# Altium integrated library Microchip Power Management Line Regulator.IntLib: 1169 symbols (part 5 of 31)
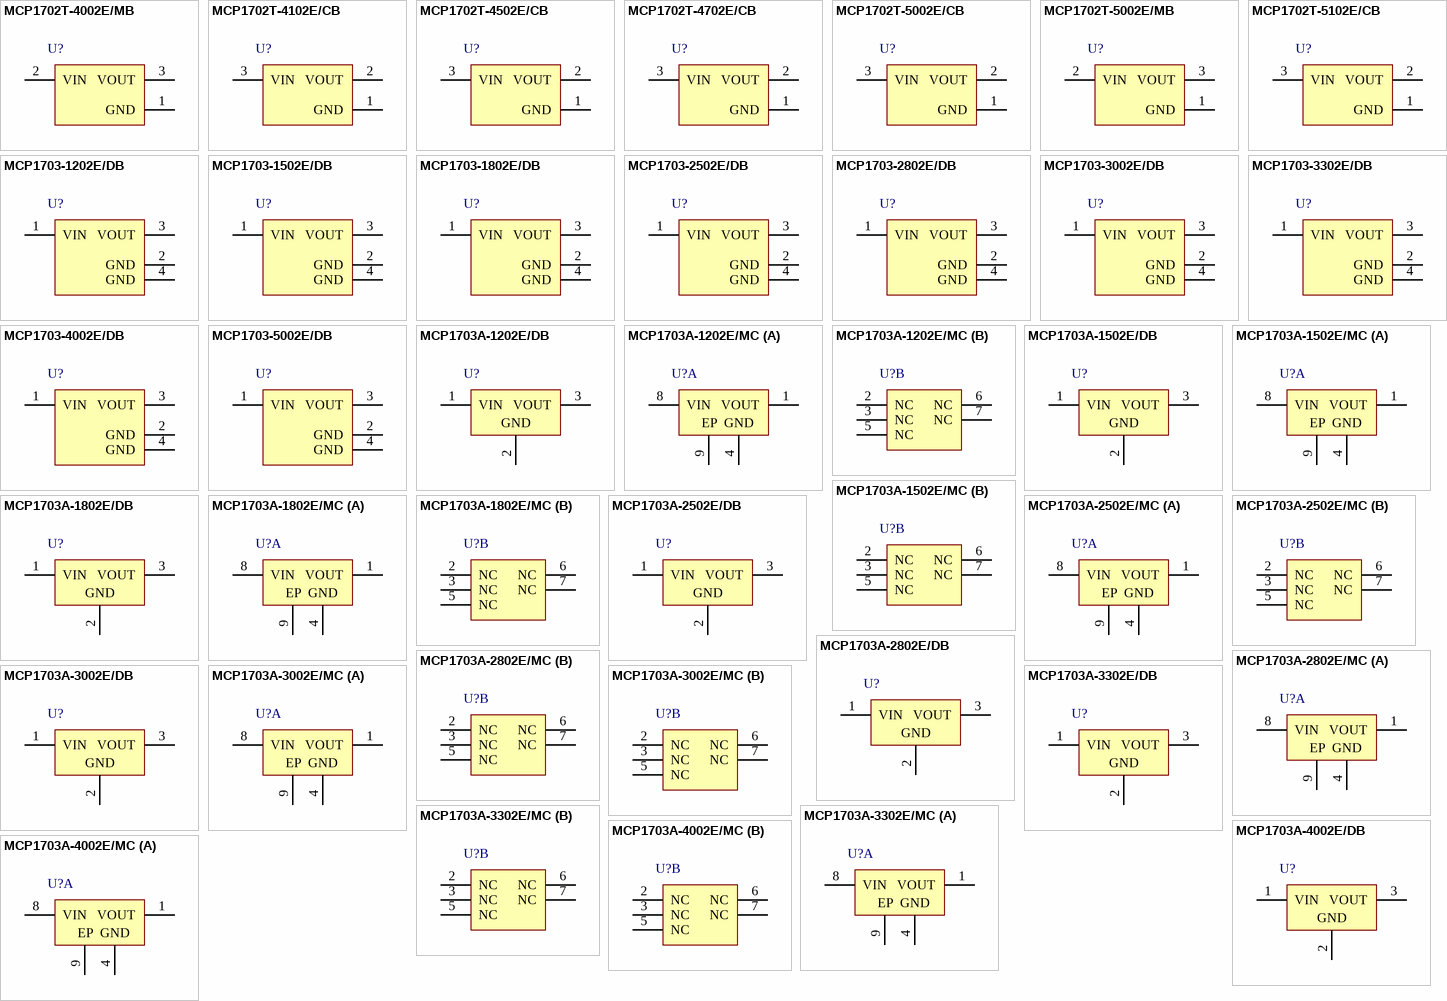
[diagram p33: symbols MCP1702T-4002E/MB to MCP1703A-4002E/MC]

## MCP1703A-4002E/DB
designator U?
250 mA, 16 V, Low Quiescent Current LDO Regulator, -40 to 125 degC, 3-pin SOT-223 (DB3), Tube; Manufacturer: Microchip; PartNumber: MCP1703A-4002E/DB; DatasheetVersion: Rev. A; PackageVersion: C04-032B; PackageReference: SOT-223-DB3; PackageDescription: 3-Lead Plastic Small Outline Transistor, 6.5 x 3.5 mm Body, 2.3 mm Pitch; Supplier 1: Digi-Key; Supplier Part Number 1: MCP1703A-4002E/DB-ND; Supplier 2: Newark; Supplier Part Number 2: 90T5919; Supplier 3: Mouser; Supplier Part Number 3: 579-MCP1703A-4002EDB; Mounting Technology: Surface Mount; ComponentLink1Description: Manufacturer URL; ComponentLink1URL: http://www.microchip.com; ComponentLink2Description: Datasheet; ComponentLink2URL: http://ww1.microchip.com/downloads/en/DeviceDoc/25122A.pdf; ComponentLink3Description: Package Specification; ComponentLink3URL: http://www.microchip.com/stellent/groups/techpub_sg/documents/packagingspec/en012702.pdf; ComponentLink4Description: Product URL; ComponentLink4URL: http://www.microchip.com/MCP1703A
footprint MCHP-SOT-223-DB3_N (SOT223, 3-Leads, Body 6.5x3.5mm, Pitch 2.3mm, IPC Medium Density)
footprint MCHP-SOT-223-DB3_L (SOT223, 3-Leads, Body 6.5x3.5mm, Pitch 2.3mm, IPC High Density)
footprint MCHP-SOT-223-DB3_M (SOT223, 3-Leads, Body 6.5x3.5mm, Pitch 2.3mm, IPC Low Density)
pins: 1 VIN (power) "Unregulated Supply Voltage", 2 GND (power) "Ground Terminal", 3 VOUT (power) "Regulated Voltage Output"

## MCP1703A-4002E/MC
designator U?
250 mA, 16 V, Low Quiescent Current LDO Regulator, -40 to 125 degC, 8-pin DFN (MC8), Tube; Manufacturer: Microchip; PartNumber: MCP1703A-4002E/MC; DatasheetVersion: Rev. A; PackageVersion: C04-123C; PackageReference: DFN-MC8; PackageDescription: 8-Lead Plastic Dual Flat, 2 x 3 mm Body, 0.5 mm Pitch; Mounting Technology: Surface Mount; ComponentLink1Description: Manufacturer URL; ComponentLink1URL: http://www.microchip.com; ComponentLink2Description: Datasheet; ComponentLink2URL: http://ww1.microchip.com/downloads/en/DeviceDoc/25122A.pdf; ComponentLink3Description: Package Specification; ComponentLink3URL: http://www.microchip.com/stellent/groups/techpub_sg/documents/packagingspec/en012702.pdf; ComponentLink4Description: Product URL; ComponentLink4URL: http://www.microchip.com/MCP1703A
footprint MCHP-DFN-MC8_V (SON, 8-Leads, Body 3x2mm, Pitch 0.5mm, Thermal Pad 1.45x1.75mm)
part A pins: 1 VOUT (power) "Regulated Voltage Output", 4 GND (power) "Ground Terminal", 8 VIN (power) "Unregulated Supply Voltage", 9 EP (power) "Exposed Thermal Pad (EP); must be connected to VSS"
part B pins: 2 NC "No Connection", 3 NC "No Connection", 5 NC "No Connection", 6 NC "No Connection", 7 NC "No Connection"

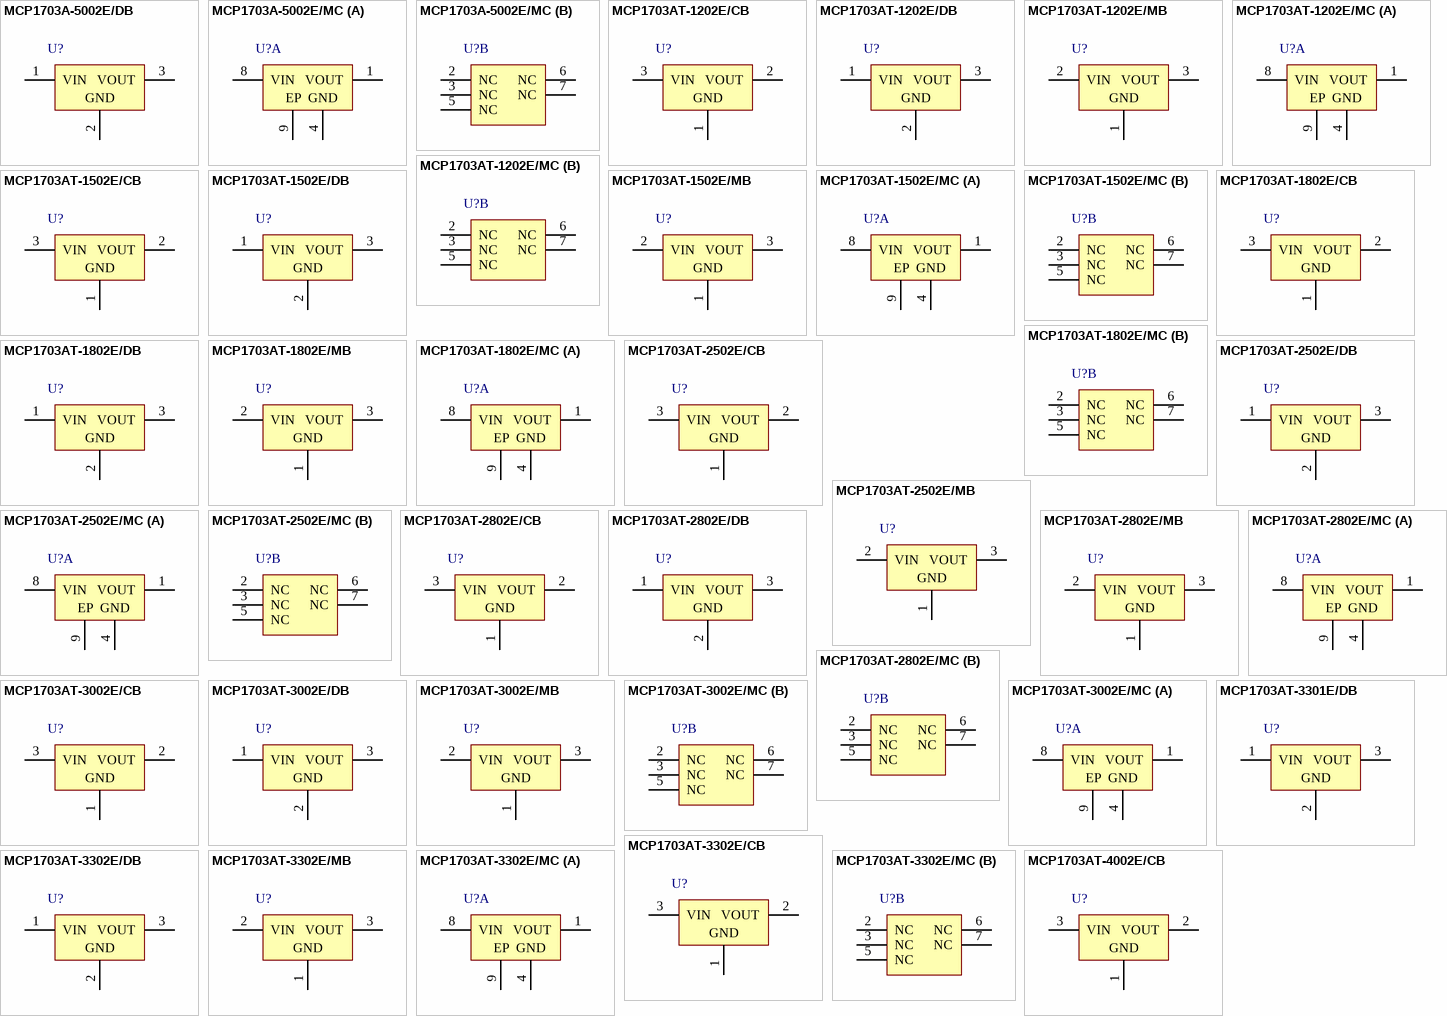
[diagram p4: symbols MCP1703A-5002E/DB to MCP1703AT-4002E/CB]

## MCP1703A-5002E/DB
designator U?
250 mA, 16 V, Low Quiescent Current LDO Regulator, -40 to 125 degC, 3-pin SOT-223 (DB3), Tube; Manufacturer: Microchip; PartNumber: MCP1703A-5002E/DB; DatasheetVersion: Rev. A; PackageVersion: C04-032B; PackageReference: SOT-223-DB3; PackageDescription: 3-Lead Plastic Small Outline Transistor, 6.5 x 3.5 mm Body, 2.3 mm Pitch; Supplier 1: Digi-Key; Supplier Part Number 1: MCP1703A-5002E/DB-ND; Supplier 2: Farnell; Supplier Part Number 2: 2113889; Supplier 3: Newark; Supplier Part Number 3: 95T9279; Supplier 4: Newark; Supplier Part Number 4: 90T5920; Supplier 5: Mouser; Supplier Part Number 5: 579-MCP1703A-5002EDB; Mounting Technology: Surface Mount; ComponentLink1Description: Manufacturer URL; ComponentLink1URL: http://www.microchip.com; ComponentLink2Description: Datasheet; ComponentLink2URL: http://ww1.microchip.com/downloads/en/DeviceDoc/25122A.pdf; ComponentLink3Description: Package Specification; ComponentLink3URL: http://www.microchip.com/stellent/groups/techpub_sg/documents/packagingspec/en012702.pdf; ComponentLink4Description: Product URL; ComponentLink4URL: http://www.microchip.com/MCP1703A
footprint MCHP-SOT-223-DB3_N (SOT223, 3-Leads, Body 6.5x3.5mm, Pitch 2.3mm, IPC Medium Density)
footprint MCHP-SOT-223-DB3_L (SOT223, 3-Leads, Body 6.5x3.5mm, Pitch 2.3mm, IPC High Density)
footprint MCHP-SOT-223-DB3_M (SOT223, 3-Leads, Body 6.5x3.5mm, Pitch 2.3mm, IPC Low Density)
pins: 1 VIN (power) "Unregulated Supply Voltage", 2 GND (power) "Ground Terminal", 3 VOUT (power) "Regulated Voltage Output"

## MCP1703A-5002E/MC
designator U?
250 mA, 16 V, Low Quiescent Current LDO Regulator, -40 to 125 degC, 8-pin DFN (MC8), Tube; Manufacturer: Microchip; PartNumber: MCP1703A-5002E/MC; DatasheetVersion: Rev. A; PackageVersion: C04-123C; PackageReference: DFN-MC8; PackageDescription: 8-Lead Plastic Dual Flat, 2 x 3 mm Body, 0.5 mm Pitch; Mounting Technology: Surface Mount; ComponentLink1Description: Manufacturer URL; ComponentLink1URL: http://www.microchip.com; ComponentLink2Description: Datasheet; ComponentLink2URL: http://ww1.microchip.com/downloads/en/DeviceDoc/25122A.pdf; ComponentLink3Description: Package Specification; ComponentLink3URL: http://www.microchip.com/stellent/groups/techpub_sg/documents/packagingspec/en012702.pdf; ComponentLink4Description: Product URL; ComponentLink4URL: http://www.microchip.com/MCP1703A
footprint MCHP-DFN-MC8_V (SON, 8-Leads, Body 3x2mm, Pitch 0.5mm, Thermal Pad 1.45x1.75mm)
part A pins: 1 VOUT (power) "Regulated Voltage Output", 4 GND (power) "Ground Terminal", 8 VIN (power) "Unregulated Supply Voltage", 9 EP (power) "Exposed Thermal Pad (EP); must be connected to VSS"
part B pins: 2 NC "No Connection", 3 NC "No Connection", 5 NC "No Connection", 6 NC "No Connection", 7 NC "No Connection"

## MCP1703AT-1202E/CB
designator U?
250 mA, 16 V, Low Quiescent Current LDO Regulator, -40 to 125 degC, 3-pin SOT-23A (CB3), Tape and Reel; Manufacturer: Microchip; PartNumber: MCP1703AT-1202E/CB; DatasheetVersion: Rev. A; PackageVersion: C04-130B; PackageReference: SOT-23A-CB3; PackageDescription: 3-Lead Plastic Small Outline Transistor, 2.9 x 1.5 mm Body, 0.95 mm Pitch; Supplier 1: Digi-Key; Supplier Part Number 1: MCP1703AT-1202E/CBTR-ND; Supplier 2: Digi-Key; Supplier Part Number 2: MCP1703AT-1202E/CBCT-ND; Supplier 3: Digi-Key; Supplier Part Number 3: MCP1703AT-1202E/CBDKR-ND; Supplier 4: Farnell; Supplier Part Number 4: 2218569; Supplier 5: Newark; Supplier Part Number 5: 46W4752; Supplier 6: Newark; Supplier Part Number 6: 83T7156; Supplier 7: Mouser; Supplier Part Number 7: 579-MCP1703AT1202ECB; Mounting Technology: Surface Mount; ComponentLink1Description: Manufacturer URL; ComponentLink1URL: http://www.microchip.com; ComponentLink2Description: Datasheet; ComponentLink2URL: http://ww1.microchip.com/downloads/en/DeviceDoc/25122A.pdf; ComponentLink3Description: Package Specification; ComponentLink3URL: http://www.microchip.com/stellent/groups/techpub_sg/documents/packagingspec/en012702.pdf; ComponentLink4Description: Product URL; ComponentLink4URL: http://www.microchip.com/MCP1703A
footprint MCHP-SOT-23A-CB3_N (SOT23, 3-Leads, Body 2.9x1.5mm, Pitch 0.95mm, IPC Medium Density)
footprint MCHP-SOT-23A-CB3_L (SOT23, 3-Leads, Body 2.9x1.5mm, Pitch 0.95mm, IPC High Density)
footprint MCHP-SOT-23A-CB3_M (SOT23, 3-Leads, Body 2.9x1.5mm, Pitch 0.95mm, IPC Low Density)
pins: 1 GND (power) "Ground Terminal", 2 VOUT (power) "Regulated Output Voltage", 3 VIN (power) "Unregulated Input Voltage"

## MCP1703AT-1202E/DB
designator U?
250 mA, 16 V, Low Quiescent Current LDO Regulator, -40 to 125 degC, 3-pin SOT-223 (DB3), Tape and Reel; Manufacturer: Microchip; PartNumber: MCP1703AT-1202E/DB; DatasheetVersion: Rev. A; PackageVersion: C04-032B; PackageReference: SOT-223-DB3; PackageDescription: 3-Lead Plastic Small Outline Transistor, 6.5 x 3.5 mm Body, 2.3 mm Pitch; Supplier 1: Digi-Key; Supplier Part Number 1: MCP1703AT-1202E/DB-ND; Supplier 2: Newark; Supplier Part Number 2: 90T5921; Supplier 3: Mouser; Supplier Part Number 3: 579-MCP1703AT1202EDB; Mounting Technology: Surface Mount; ComponentLink1Description: Manufacturer URL; ComponentLink1URL: http://www.microchip.com; ComponentLink2Description: Datasheet; ComponentLink2URL: http://ww1.microchip.com/downloads/en/DeviceDoc/25122A.pdf; ComponentLink3Description: Package Specification; ComponentLink3URL: http://www.microchip.com/stellent/groups/techpub_sg/documents/packagingspec/en012702.pdf; ComponentLink4Description: Product URL; ComponentLink4URL: http://www.microchip.com/MCP1703A
footprint MCHP-SOT-223-DB3_N (SOT223, 3-Leads, Body 6.5x3.5mm, Pitch 2.3mm, IPC Medium Density)
footprint MCHP-SOT-223-DB3_L (SOT223, 3-Leads, Body 6.5x3.5mm, Pitch 2.3mm, IPC High Density)
footprint MCHP-SOT-223-DB3_M (SOT223, 3-Leads, Body 6.5x3.5mm, Pitch 2.3mm, IPC Low Density)
pins: 1 VIN (power) "Unregulated Supply Voltage", 2 GND (power) "Ground Terminal", 3 VOUT (power) "Regulated Voltage Output"

## MCP1703AT-1202E/MB
designator U?
250 mA, 16 V, Low Quiescent Current LDO Regulator, -40 to 125 degC, 3-pin SOT-89 (MB3), Tape and Reel; Manufacturer: Microchip; PartNumber: MCP1703AT-1202E/MB; DatasheetVersion: Rev. A; PackageVersion: C04-029B; PackageReference: SOT-89-MB3; PackageDescription: 3-Lead Plastic Small Outline Transistor Header, 4.5 x 2.45 mm Body, 1.5 mm Pitch; Supplier 1: Digi-Key; Supplier Part Number 1: MCP1703AT-1202E/MBTR-ND; Supplier 2: Digi-Key; Supplier Part Number 2: MCP1703AT-1202E/MBCT-ND; Supplier 3: Digi-Key; Supplier Part Number 3: MCP1703AT-1202E/MBDKR-ND; Supplier 4: Farnell; Supplier Part Number 4: 2218570; Supplier 5: Newark; Supplier Part Number 5: 46W4753; Supplier 6: Newark; Supplier Part Number 6: 83T7157; Supplier 7: Mouser; Supplier Part Number 7: 579-MCP1703AT1202EMB; Mounting Technology: Surface Mount; ComponentLink1Description: Manufacturer URL; ComponentLink1URL: http://www.microchip.com; ComponentLink2Description: Datasheet; ComponentLink2URL: http://ww1.microchip.com/downloads/en/DeviceDoc/25122A.pdf; ComponentLink3Description: Package Specification; ComponentLink3URL: http://www.microchip.com/stellent/groups/techpub_sg/documents/packagingspec/en012702.pdf; ComponentLink4Description: Product URL; ComponentLink4URL: http://www.microchip.com/MCP1703A
footprint MCHP-SOT-89-MB3_N (SOT89, 3-Leads, Body 4.5x2.45mm, Pitch 1.5mm, IPC Medium Density)
footprint MCHP-SOT-89-MB3_L (SOT89, 3-Leads, Body 4.5x2.45mm, Pitch 1.5mm, IPC High Density)
footprint MCHP-SOT-89-MB3_M (SOT89, 3-Leads, Body 4.5x2.45mm, Pitch 1.5mm, IPC Low Density)
pins: 1 GND (power) "Ground Terminal", 2 VIN (power) "Unregulated Supply Voltage", 3 VOUT (power) "Regulated Voltage Output"

## MCP1703AT-1202E/MC
designator U?
250 mA, 16 V, Low Quiescent Current LDO Regulator, -40 to 125 degC, 8-pin DFN (MC8), Tape and Reel; Manufacturer: Microchip; PartNumber: MCP1703AT-1202E/MC; DatasheetVersion: Rev. A; PackageVersion: C04-123C; PackageReference: DFN-MC8; PackageDescription: 8-Lead Plastic Dual Flat, 2 x 3 mm Body, 0.5 mm Pitch; Supplier 1: Digi-Key; Supplier Part Number 1: MCP1703AT-1202E/MC-ND; Supplier 2: Newark; Supplier Part Number 2: 90T5922; Supplier 3: Mouser; Supplier Part Number 3: 579-MCP1703AT1202EMC; Mounting Technology: Surface Mount; ComponentLink1Description: Manufacturer URL; ComponentLink1URL: http://www.microchip.com; ComponentLink2Description: Datasheet; ComponentLink2URL: http://ww1.microchip.com/downloads/en/DeviceDoc/25122A.pdf; ComponentLink3Description: Package Specification; ComponentLink3URL: http://www.microchip.com/stellent/groups/techpub_sg/documents/packagingspec/en012702.pdf; ComponentLink4Description: Product URL; ComponentLink4URL: http://www.microchip.com/MCP1703A
footprint MCHP-DFN-MC8_V (SON, 8-Leads, Body 3x2mm, Pitch 0.5mm, Thermal Pad 1.45x1.75mm)
part A pins: 1 VOUT (power) "Regulated Voltage Output", 4 GND (power) "Ground Terminal", 8 VIN (power) "Unregulated Supply Voltage", 9 EP (power) "Exposed Thermal Pad (EP); must be connected to VSS"
part B pins: 2 NC "No Connection", 3 NC "No Connection", 5 NC "No Connection", 6 NC "No Connection", 7 NC "No Connection"

## MCP1703AT-1502E/CB
designator U?
250 mA, 16V, Low Quiescent Current LDO Regulator, -40 to 125 degC, 3-pin SOT-23A (CB3), Tape and Real; Manufacturer: Microchip; PartNumber: MCP1703AT-1502E/CB; DatasheetVersion: Rev. A; PackageVersion: C04-130B; PackageReference: SOT-23A-CB3; PackageDescription: 3-Lead Plastic Small Outline Transistor, 2.9 x 1.5 mm Body, 0.95 mm Pitch; Supplier 1: Digi-Key; Supplier Part Number 1: MCP1703AT-1502E/CBTR-ND; Supplier 2: Digi-Key; Supplier Part Number 2: MCP1703AT-1502E/CBCT-ND; Supplier 3: Digi-Key; Supplier Part Number 3: MCP1703AT-1502E/CBDKR-ND; Supplier 4: Farnell; Supplier Part Number 4: 2218571; Supplier 5: Newark; Supplier Part Number 5: 46W4754; Supplier 6: Newark; Supplier Part Number 6: 83T7158; Supplier 7: Mouser; Supplier Part Number 7: 579-MCP1703AT1502ECB; Mounting Technology: Surface Mount; ComponentLink1Description: Manufacturer URL; ComponentLink1URL: http://www.microchip.com; ComponentLink2Description: Datasheet; ComponentLink2URL: http://ww1.microchip.com/downloads/en/DeviceDoc/25122A.pdf; ComponentLink3Description: Package Specification; ComponentLink3URL: http://www.microchip.com/stellent/groups/techpub_sg/documents/packagingspec/en012702.pdf; ComponentLink4Description: Product URL; ComponentLink4URL: http://www.microchip.com/MCP1703A
footprint MCHP-SOT-23A-CB3_N (SOT23, 3-Leads, Body 2.9x1.5mm, Pitch 0.95mm, IPC Medium Density)
footprint MCHP-SOT-23A-CB3_L (SOT23, 3-Leads, Body 2.9x1.5mm, Pitch 0.95mm, IPC High Density)
footprint MCHP-SOT-23A-CB3_M (SOT23, 3-Leads, Body 2.9x1.5mm, Pitch 0.95mm, IPC Low Density)
pins: 1 GND (power) "Ground Terminal", 2 VOUT (power) "Regulated Output Voltage", 3 VIN (power) "Unregulated Input Voltage"

## MCP1703AT-1502E/DB
designator U?
250 mA, 16V, Low Quiescent Current LDO Regulator, -40 to 125 degC, 3-pin SOT-223 (DB3), Tape and Reel; Manufacturer: Microchip; PartNumber: MCP1703AT-1502E/DB; DatasheetVersion: Rev. A; PackageVersion: C04-032B; PackageReference: SOT-223-DB3; PackageDescription: 3-Lead Plastic Small Outline Transistor, 6.5 x 3.5 mm Body, 2.3 mm Pitch; Supplier 1: Digi-Key; Supplier Part Number 1: MCP1703AT-1502E/DB-ND; Supplier 2: Newark; Supplier Part Number 2: 90T5923; Supplier 3: Mouser; Supplier Part Number 3: 579-MCP1703AT1502EDB; Mounting Technology: Surface Mount; ComponentLink1Description: Manufacturer URL; ComponentLink1URL: http://www.microchip.com; ComponentLink2Description: Datasheet; ComponentLink2URL: http://ww1.microchip.com/downloads/en/DeviceDoc/25122A.pdf; ComponentLink3Description: Package Specification; ComponentLink3URL: http://www.microchip.com/stellent/groups/techpub_sg/documents/packagingspec/en012702.pdf; ComponentLink4Description: Product URL; ComponentLink4URL: http://www.microchip.com/MCP1703A
footprint MCHP-SOT-223-DB3_N (SOT223, 3-Leads, Body 6.5x3.5mm, Pitch 2.3mm, IPC Medium Density)
footprint MCHP-SOT-223-DB3_L (SOT223, 3-Leads, Body 6.5x3.5mm, Pitch 2.3mm, IPC High Density)
footprint MCHP-SOT-223-DB3_M (SOT223, 3-Leads, Body 6.5x3.5mm, Pitch 2.3mm, IPC Low Density)
pins: 1 VIN (power) "Unregulated Supply Voltage", 2 GND (power) "Ground Terminal", 3 VOUT (power) "Regulated Voltage Output"

## MCP1703AT-1502E/MB
designator U?
250 mA, 16V, Low Quiescent Current LDO Regulator, -40 to 125 degC, 3-pin SOT-89 (MB3), Tape and Reel; Manufacturer: Microchip; PartNumber: MCP1703AT-1502E/MB; DatasheetVersion: Rev. A; PackageVersion: C04-029B; PackageReference: SOT-89-MB3; PackageDescription: 3-Lead Plastic Small Outline Transistor Header, 4.5 x 2.45 mm Body, 1.5 mm Pitch; Supplier 1: Digi-Key; Supplier Part Number 1: MCP1703AT-1502E/MBTR-ND; Supplier 2: Digi-Key; Supplier Part Number 2: MCP1703AT-1502E/MBCT-ND; Supplier 3: Digi-Key; Supplier Part Number 3: MCP1703AT-1502E/MBDKR-ND; Supplier 4: Farnell; Supplier Part Number 4: 2218572; Supplier 5: Newark; Supplier Part Number 5: 83T7159; Supplier 6: Newark; Supplier Part Number 6: 46W4755; Supplier 7: Mouser; Supplier Part Number 7: 579-MCP1703AT1502EMB; Mounting Technology: Surface Mount; ComponentLink1Description: Manufacturer URL; ComponentLink1URL: http://www.microchip.com; ComponentLink2Description: Datasheet; ComponentLink2URL: http://ww1.microchip.com/downloads/en/DeviceDoc/25122A.pdf; ComponentLink3Description: Package Specification; ComponentLink3URL: http://www.microchip.com/stellent/groups/techpub_sg/documents/packagingspec/en012702.pdf; ComponentLink4Description: Product URL; ComponentLink4URL: http://www.microchip.com/MCP1703A
footprint MCHP-SOT-89-MB3_N (SOT89, 3-Leads, Body 4.5x2.45mm, Pitch 1.5mm, IPC Medium Density)
footprint MCHP-SOT-89-MB3_L (SOT89, 3-Leads, Body 4.5x2.45mm, Pitch 1.5mm, IPC High Density)
footprint MCHP-SOT-89-MB3_M (SOT89, 3-Leads, Body 4.5x2.45mm, Pitch 1.5mm, IPC Low Density)
pins: 1 GND (power) "Ground Terminal", 2 VIN (power) "Unregulated Supply Voltage", 3 VOUT (power) "Regulated Voltage Output"

## MCP1703AT-1502E/MC
designator U?
250 mA, 16V, Low Quiescent Current LDO Regulator, -40 to 125 degC, 8-pin DFN (MC8), Tape and Reel; Manufacturer: Microchip; PartNumber: MCP1703AT-1502E/MC; DatasheetVersion: Rev. A; PackageVersion: C04-123C; PackageReference: DFN-MC8; PackageDescription: 8-Lead Plastic Dual Flat, 2 x 3 mm Body, 0.5 mm Pitch; Mounting Technology: Surface Mount; ComponentLink1Description: Manufacturer URL; ComponentLink1URL: http://www.microchip.com; ComponentLink2Description: Datasheet; ComponentLink2URL: http://ww1.microchip.com/downloads/en/DeviceDoc/25122A.pdf; ComponentLink3Description: Package Specification; ComponentLink3URL: http://www.microchip.com/stellent/groups/techpub_sg/documents/packagingspec/en012702.pdf; ComponentLink4Description: Product URL; ComponentLink4URL: http://www.microchip.com/MCP1703A
footprint MCHP-DFN-MC8_V (SON, 8-Leads, Body 3x2mm, Pitch 0.5mm, Thermal Pad 1.45x1.75mm)
part A pins: 1 VOUT (power) "Regulated Voltage Output", 4 GND (power) "Ground Terminal", 8 VIN (power) "Unregulated Supply Voltage", 9 EP (power) "Exposed Thermal Pad (EP); must be connected to VSS"
part B pins: 2 NC "No Connection", 3 NC "No Connection", 5 NC "No Connection", 6 NC "No Connection", 7 NC "No Connection"

## MCP1703AT-1802E/CB
designator U?
250 mA, 16V, Low Quiescent Current LDO Regulator, -40 to 125 degC, 3-pin SOT-23A (CB3), Tape and Reel; Manufacturer: Microchip; PartNumber: MCP1703AT-1802E/CB; DatasheetVersion: Rev. A; PackageVersion: C04-130B; PackageReference: SOT-23A-CB3; PackageDescription: 3-Lead Plastic Small Outline Transistor, 2.9 x 1.5 mm Body, 0.95 mm Pitch; Supplier 1: Digi-Key; Supplier Part Number 1: MCP1703AT-1802E/CB-ND; Supplier 2: Newark; Supplier Part Number 2: 83T7160; Supplier 3: Mouser; Supplier Part Number 3: 579-MCP1703AT1802ECB; Mounting Technology: Surface Mount; ComponentLink1Description: Manufacturer URL; ComponentLink1URL: http://www.microchip.com; ComponentLink2Description: Datasheet; ComponentLink2URL: http://ww1.microchip.com/downloads/en/DeviceDoc/25122A.pdf; ComponentLink3Description: Package Specification; ComponentLink3URL: http://www.microchip.com/stellent/groups/techpub_sg/documents/packagingspec/en012702.pdf; ComponentLink4Description: Product URL; ComponentLink4URL: http://www.microchip.com/MCP1703A
footprint MCHP-SOT-23A-CB3_N (SOT23, 3-Leads, Body 2.9x1.5mm, Pitch 0.95mm, IPC Medium Density)
footprint MCHP-SOT-23A-CB3_L (SOT23, 3-Leads, Body 2.9x1.5mm, Pitch 0.95mm, IPC High Density)
footprint MCHP-SOT-23A-CB3_M (SOT23, 3-Leads, Body 2.9x1.5mm, Pitch 0.95mm, IPC Low Density)
pins: 1 GND (power) "Ground Terminal", 2 VOUT (power) "Regulated Output Voltage", 3 VIN (power) "Unregulated Input Voltage"

## MCP1703AT-1802E/DB
designator U?
250 mA, 16V, Low Quiescent Current LDO Regulator, -40 to 125 degC, 3-pin SOT-223 (DB3), Tape and Reel; Manufacturer: Microchip; PartNumber: MCP1703AT-1802E/DB; DatasheetVersion: Rev. A; PackageVersion: C04-032B; PackageReference: SOT-223-DB3; PackageDescription: 3-Lead Plastic Small Outline Transistor, 6.5 x 3.5 mm Body, 2.3 mm Pitch; Supplier 1: Digi-Key; Supplier Part Number 1: MCP1703AT-1802E/DB-ND; Supplier 2: Newark; Supplier Part Number 2: 90T5924; Supplier 3: Mouser; Supplier Part Number 3: 579-MCP1703AT1802EDB; Mounting Technology: Surface Mount; ComponentLink1Description: Manufacturer URL; ComponentLink1URL: http://www.microchip.com; ComponentLink2Description: Datasheet; ComponentLink2URL: http://ww1.microchip.com/downloads/en/DeviceDoc/25122A.pdf; ComponentLink3Description: Package Specification; ComponentLink3URL: http://www.microchip.com/stellent/groups/techpub_sg/documents/packagingspec/en012702.pdf; ComponentLink4Description: Product URL; ComponentLink4URL: http://www.microchip.com/MCP1703A
footprint MCHP-SOT-223-DB3_N (SOT223, 3-Leads, Body 6.5x3.5mm, Pitch 2.3mm, IPC Medium Density)
footprint MCHP-SOT-223-DB3_L (SOT223, 3-Leads, Body 6.5x3.5mm, Pitch 2.3mm, IPC High Density)
footprint MCHP-SOT-223-DB3_M (SOT223, 3-Leads, Body 6.5x3.5mm, Pitch 2.3mm, IPC Low Density)
pins: 1 VIN (power) "Unregulated Supply Voltage", 2 GND (power) "Ground Terminal", 3 VOUT (power) "Regulated Voltage Output"

## MCP1703AT-1802E/MB
designator U?
250 mA, 16V, Low Quiescent Current LDO Regulator, -40 to 125 degC, 3-pin SOT-89 (MB3), Tape and Reel; Manufacturer: Microchip; PartNumber: MCP1703AT-1802E/MB; DatasheetVersion: Rev. A; PackageVersion: C04-029B; PackageReference: SOT-89-MB3; PackageDescription: 3-Lead Plastic Small Outline Transistor Header, 4.5 x 2.45 mm Body, 1.5 mm Pitch; Supplier 1: Digi-Key; Supplier Part Number 1: MCP1703AT-1802E/MB-ND; Supplier 2: Newark; Supplier Part Number 2: 83T7161; Supplier 3: Mouser; Supplier Part Number 3: 579-MCP1703AT1802EMB; Mounting Technology: Surface Mount; ComponentLink1Description: Manufacturer URL; ComponentLink1URL: http://www.microchip.com; ComponentLink2Description: Datasheet; ComponentLink2URL: http://ww1.microchip.com/downloads/en/DeviceDoc/25122A.pdf; ComponentLink3Description: Package Specification; ComponentLink3URL: http://www.microchip.com/stellent/groups/techpub_sg/documents/packagingspec/en012702.pdf; ComponentLink4Description: Product URL; ComponentLink4URL: http://www.microchip.com/MCP1703A
footprint MCHP-SOT-89-MB3_N (SOT89, 3-Leads, Body 4.5x2.45mm, Pitch 1.5mm, IPC Medium Density)
footprint MCHP-SOT-89-MB3_L (SOT89, 3-Leads, Body 4.5x2.45mm, Pitch 1.5mm, IPC High Density)
footprint MCHP-SOT-89-MB3_M (SOT89, 3-Leads, Body 4.5x2.45mm, Pitch 1.5mm, IPC Low Density)
pins: 1 GND (power) "Ground Terminal", 2 VIN (power) "Unregulated Supply Voltage", 3 VOUT (power) "Regulated Voltage Output"

## MCP1703AT-1802E/MC
designator U?
250 mA, 16V, Low Quiescent Current LDO Regulator, -40 to 125 degC, 8-pin DFN (MC8), Tape and Reel; Manufacturer: Microchip; PartNumber: MCP1703AT-1802E/MC; DatasheetVersion: Rev. A; PackageVersion: C04-123C; PackageReference: DFN-MC8; PackageDescription: 8-Lead Plastic Dual Flat, 2 x 3 mm Body, 0.5 mm Pitch; Supplier 1: Digi-Key; Supplier Part Number 1: MCP1703AT-1802E/MC-ND; Supplier 2: Newark; Supplier Part Number 2: 90T5925; Supplier 3: Mouser; Supplier Part Number 3: 579-MCP1703AT1802EMC; Mounting Technology: Surface Mount; ComponentLink1Description: Manufacturer URL; ComponentLink1URL: http://www.microchip.com; ComponentLink2Description: Datasheet; ComponentLink2URL: http://ww1.microchip.com/downloads/en/DeviceDoc/25122A.pdf; ComponentLink3Description: Package Specification; ComponentLink3URL: http://www.microchip.com/stellent/groups/techpub_sg/documents/packagingspec/en012702.pdf; ComponentLink4Description: Product URL; ComponentLink4URL: http://www.microchip.com/MCP1703A
footprint MCHP-DFN-MC8_V (SON, 8-Leads, Body 3x2mm, Pitch 0.5mm, Thermal Pad 1.45x1.75mm)
part A pins: 1 VOUT (power) "Regulated Voltage Output", 4 GND (power) "Ground Terminal", 8 VIN (power) "Unregulated Supply Voltage", 9 EP (power) "Exposed Thermal Pad (EP); must be connected to VSS"
part B pins: 2 NC "No Connection", 3 NC "No Connection", 5 NC "No Connection", 6 NC "No Connection", 7 NC "No Connection"

## MCP1703AT-2502E/CB
designator U?
250 mA, 16V, Low Quiescent Current LDO Regulator, -40 to 125 degC, 3-pin SOT-23A (CB3), Tape and Reel; Manufacturer: Microchip; PartNumber: MCP1703AT-2502E/CB; DatasheetVersion: Rev. A; PackageVersion: C04-130B; PackageReference: SOT-23A-CB3; PackageDescription: 3-Lead Plastic Small Outline Transistor, 2.9 x 1.5 mm Body, 0.95 mm Pitch; Supplier 1: Digi-Key; Supplier Part Number 1: MCP1703AT-2502E/CB-ND; Supplier 2: Newark; Supplier Part Number 2: 83T7162; Supplier 3: Mouser; Supplier Part Number 3: 579-MCP1703AT2502ECB; Mounting Technology: Surface Mount; ComponentLink1Description: Manufacturer URL; ComponentLink1URL: http://www.microchip.com; ComponentLink2Description: Datasheet; ComponentLink2URL: http://ww1.microchip.com/downloads/en/DeviceDoc/25122A.pdf; ComponentLink3Description: Package Specification; ComponentLink3URL: http://www.microchip.com/stellent/groups/techpub_sg/documents/packagingspec/en012702.pdf; ComponentLink4Description: Product URL; ComponentLink4URL: http://www.microchip.com/MCP1703A
footprint MCHP-SOT-23A-CB3_N (SOT23, 3-Leads, Body 2.9x1.5mm, Pitch 0.95mm, IPC Medium Density)
footprint MCHP-SOT-23A-CB3_L (SOT23, 3-Leads, Body 2.9x1.5mm, Pitch 0.95mm, IPC High Density)
footprint MCHP-SOT-23A-CB3_M (SOT23, 3-Leads, Body 2.9x1.5mm, Pitch 0.95mm, IPC Low Density)
pins: 1 GND (power) "Ground Terminal", 2 VOUT (power) "Regulated Output Voltage", 3 VIN (power) "Unregulated Input Voltage"

## MCP1703AT-2502E/DB
designator U?
250 mA, 16V, Low Quiescent Current LDO Regulator, -40 to 125 degC, 3-pin SOT-223 (DB3), Tape and Reel; Manufacturer: Microchip; PartNumber: MCP1703AT-2502E/DB; DatasheetVersion: Rev. A; PackageVersion: C04-032B; PackageReference: SOT-223-DB3; PackageDescription: 3-Lead Plastic Small Outline Transistor, 6.5 x 3.5 mm Body, 2.3 mm Pitch; Supplier 1: Digi-Key; Supplier Part Number 1: MCP1703AT-2502E/DB-ND; Supplier 2: Newark; Supplier Part Number 2: 90T5926; Supplier 3: Mouser; Supplier Part Number 3: 579-MCP1703AT2502EDB; Mounting Technology: Surface Mount; ComponentLink1Description: Manufacturer URL; ComponentLink1URL: http://www.microchip.com; ComponentLink2Description: Datasheet; ComponentLink2URL: http://ww1.microchip.com/downloads/en/DeviceDoc/25122A.pdf; ComponentLink3Description: Package Specification; ComponentLink3URL: http://www.microchip.com/stellent/groups/techpub_sg/documents/packagingspec/en012702.pdf; ComponentLink4Description: Product URL; ComponentLink4URL: http://www.microchip.com/MCP1703A
footprint MCHP-SOT-223-DB3_N (SOT223, 3-Leads, Body 6.5x3.5mm, Pitch 2.3mm, IPC Medium Density)
footprint MCHP-SOT-223-DB3_L (SOT223, 3-Leads, Body 6.5x3.5mm, Pitch 2.3mm, IPC High Density)
footprint MCHP-SOT-223-DB3_M (SOT223, 3-Leads, Body 6.5x3.5mm, Pitch 2.3mm, IPC Low Density)
pins: 1 VIN (power) "Unregulated Supply Voltage", 2 GND (power) "Ground Terminal", 3 VOUT (power) "Regulated Voltage Output"

## MCP1703AT-2502E/MB
designator U?
250 mA, 16V, Low Quiescent Current LDO Regulator, -40 to 125 degC, 3-pin SOT-89 (MB3), Tape and Reel; Manufacturer: Microchip; PartNumber: MCP1703AT-2502E/MB; DatasheetVersion: Rev. A; PackageVersion: C04-029B; PackageReference: SOT-89-MB3; PackageDescription: 3-Lead Plastic Small Outline Transistor Header, 4.5 x 2.45 mm Body, 1.5 mm Pitch; Supplier 1: Digi-Key; Supplier Part Number 1: MCP1703AT-2502E/MB-ND; Supplier 2: Newark; Supplier Part Number 2: 83T7163; Supplier 3: Mouser; Supplier Part Number 3: 579-MCP1703AT2502EMB; Mounting Technology: Surface Mount; ComponentLink1Description: Manufacturer URL; ComponentLink1URL: http://www.microchip.com; ComponentLink2Description: Datasheet; ComponentLink2URL: http://ww1.microchip.com/downloads/en/DeviceDoc/25122A.pdf; ComponentLink3Description: Package Specification; ComponentLink3URL: http://www.microchip.com/stellent/groups/techpub_sg/documents/packagingspec/en012702.pdf; ComponentLink4Description: Product URL; ComponentLink4URL: http://www.microchip.com/MCP1703A
footprint MCHP-SOT-89-MB3_N (SOT89, 3-Leads, Body 4.5x2.45mm, Pitch 1.5mm, IPC Medium Density)
footprint MCHP-SOT-89-MB3_L (SOT89, 3-Leads, Body 4.5x2.45mm, Pitch 1.5mm, IPC High Density)
footprint MCHP-SOT-89-MB3_M (SOT89, 3-Leads, Body 4.5x2.45mm, Pitch 1.5mm, IPC Low Density)
pins: 1 GND (power) "Ground Terminal", 2 VIN (power) "Unregulated Supply Voltage", 3 VOUT (power) "Regulated Voltage Output"

## MCP1703AT-2502E/MC
designator U?
250 mA, 16V, Low Quiescent Current LDO Regulator, -40 to 125 degC, 8-pin DFN (MC8), Tape and Reel; Manufacturer: Microchip; PartNumber: MCP1703AT-2502E/MC; DatasheetVersion: Rev. A; PackageVersion: C04-123C; PackageReference: DFN-MC8; PackageDescription: 8-Lead Plastic Dual Flat, 2 x 3 mm Body, 0.5 mm Pitch; Supplier 1: Digi-Key; Supplier Part Number 1: MCP1703AT-2502E/MC-ND; Supplier 2: Newark; Supplier Part Number 2: 90T5927; Supplier 3: Mouser; Supplier Part Number 3: 579-MCP1703AT2502EMC; Mounting Technology: Surface Mount; ComponentLink1Description: Manufacturer URL; ComponentLink1URL: http://www.microchip.com; ComponentLink2Description: Datasheet; ComponentLink2URL: http://ww1.microchip.com/downloads/en/DeviceDoc/25122A.pdf; ComponentLink3Description: Package Specification; ComponentLink3URL: http://www.microchip.com/stellent/groups/techpub_sg/documents/packagingspec/en012702.pdf; ComponentLink4Description: Product URL; ComponentLink4URL: http://www.microchip.com/MCP1703A
footprint MCHP-DFN-MC8_V (SON, 8-Leads, Body 3x2mm, Pitch 0.5mm, Thermal Pad 1.45x1.75mm)
part A pins: 1 VOUT (power) "Regulated Voltage Output", 4 GND (power) "Ground Terminal", 8 VIN (power) "Unregulated Supply Voltage", 9 EP (power) "Exposed Thermal Pad (EP); must be connected to VSS"
part B pins: 2 NC "No Connection", 3 NC "No Connection", 5 NC "No Connection", 6 NC "No Connection", 7 NC "No Connection"

## MCP1703AT-2802E/CB
designator U?
250 mA, 16V, Low Quiescent Current LDO Regulator, -40 to 125 degC, 3-pin SOT-23A (CB3), Tape and Reel; Manufacturer: Microchip; PartNumber: MCP1703AT-2802E/CB; DatasheetVersion: Rev. A; PackageVersion: C04-130B; PackageReference: SOT-23A-CB3; PackageDescription: 3-Lead Plastic Small Outline Transistor, 2.9 x 1.5 mm Body, 0.95 mm Pitch; Supplier 1: Digi-Key; Supplier Part Number 1: MCP1703AT-2802E/CB-ND; Supplier 2: Newark; Supplier Part Number 2: 83T7164; Supplier 3: Mouser; Supplier Part Number 3: 579-MCP1703AT2802ECB; Mounting Technology: Surface Mount; ComponentLink1Description: Manufacturer URL; ComponentLink1URL: http://www.microchip.com; ComponentLink2Description: Datasheet; ComponentLink2URL: http://ww1.microchip.com/downloads/en/DeviceDoc/25122A.pdf; ComponentLink3Description: Package Specification; ComponentLink3URL: http://www.microchip.com/stellent/groups/techpub_sg/documents/packagingspec/en012702.pdf; ComponentLink4Description: Product URL; ComponentLink4URL: http://www.microchip.com/MCP1703A
footprint MCHP-SOT-23A-CB3_N (SOT23, 3-Leads, Body 2.9x1.5mm, Pitch 0.95mm, IPC Medium Density)
footprint MCHP-SOT-23A-CB3_L (SOT23, 3-Leads, Body 2.9x1.5mm, Pitch 0.95mm, IPC High Density)
footprint MCHP-SOT-23A-CB3_M (SOT23, 3-Leads, Body 2.9x1.5mm, Pitch 0.95mm, IPC Low Density)
pins: 1 GND (power) "Ground Terminal", 2 VOUT (power) "Regulated Output Voltage", 3 VIN (power) "Unregulated Input Voltage"

## MCP1703AT-2802E/DB
designator U?
250 mA, 16V, Low Quiescent Current LDO Regulator, -40 to 125 degC, 3-pin SOT-223 (DB3), Tape and Reel; Manufacturer: Microchip; PartNumber: MCP1703AT-2802E/DB; DatasheetVersion: Rev. A; PackageVersion: C04-032B; PackageReference: SOT-223-DB3; PackageDescription: 3-Lead Plastic Small Outline Transistor, 6.5 x 3.5 mm Body, 2.3 mm Pitch; Supplier 1: Digi-Key; Supplier Part Number 1: MCP1703AT-2802E/DB-ND; Supplier 2: Newark; Supplier Part Number 2: 90T5928; Supplier 3: Mouser; Supplier Part Number 3: 579-MCP1703AT2802EDB; Mounting Technology: Surface Mount; ComponentLink1Description: Manufacturer URL; ComponentLink1URL: http://www.microchip.com; ComponentLink2Description: Datasheet; ComponentLink2URL: http://ww1.microchip.com/downloads/en/DeviceDoc/25122A.pdf; ComponentLink3Description: Package Specification; ComponentLink3URL: http://www.microchip.com/stellent/groups/techpub_sg/documents/packagingspec/en012702.pdf; ComponentLink4Description: Product URL; ComponentLink4URL: http://www.microchip.com/MCP1703A
footprint MCHP-SOT-223-DB3_N (SOT223, 3-Leads, Body 6.5x3.5mm, Pitch 2.3mm, IPC Medium Density)
footprint MCHP-SOT-223-DB3_L (SOT223, 3-Leads, Body 6.5x3.5mm, Pitch 2.3mm, IPC High Density)
footprint MCHP-SOT-223-DB3_M (SOT223, 3-Leads, Body 6.5x3.5mm, Pitch 2.3mm, IPC Low Density)
pins: 1 VIN (power) "Unregulated Supply Voltage", 2 GND (power) "Ground Terminal", 3 VOUT (power) "Regulated Voltage Output"

## MCP1703AT-2802E/MB
designator U?
250 mA, 16V, Low Quiescent Current LDO Regulator, -40 to 125 degC, 3-pin SOT-89 (MB3), Tape and Reel; Manufacturer: Microchip; PartNumber: MCP1703AT-2802E/MB; DatasheetVersion: Rev. A; PackageVersion: C04-029B; PackageReference: SOT-89-MB3; PackageDescription: 3-Lead Plastic Small Outline Transistor Header, 4.5 x 2.45 mm Body, 1.5 mm Pitch; Supplier 1: Digi-Key; Supplier Part Number 1: MCP1703AT-2802E/MB-ND; Supplier 2: Newark; Supplier Part Number 2: 83T7165; Supplier 3: Mouser; Supplier Part Number 3: 579-MCP1703AT2802EMB; Mounting Technology: Surface Mount; ComponentLink1Description: Manufacturer URL; ComponentLink1URL: http://www.microchip.com; ComponentLink2Description: Datasheet; ComponentLink2URL: http://ww1.microchip.com/downloads/en/DeviceDoc/25122A.pdf; ComponentLink3Description: Package Specification; ComponentLink3URL: http://www.microchip.com/stellent/groups/techpub_sg/documents/packagingspec/en012702.pdf; ComponentLink4Description: Product URL; ComponentLink4URL: http://www.microchip.com/MCP1703A
footprint MCHP-SOT-89-MB3_N (SOT89, 3-Leads, Body 4.5x2.45mm, Pitch 1.5mm, IPC Medium Density)
footprint MCHP-SOT-89-MB3_L (SOT89, 3-Leads, Body 4.5x2.45mm, Pitch 1.5mm, IPC High Density)
footprint MCHP-SOT-89-MB3_M (SOT89, 3-Leads, Body 4.5x2.45mm, Pitch 1.5mm, IPC Low Density)
pins: 1 GND (power) "Ground Terminal", 2 VIN (power) "Unregulated Supply Voltage", 3 VOUT (power) "Regulated Voltage Output"

## MCP1703AT-2802E/MC
designator U?
250 mA, 16V, Low Quiescent Current LDO Regulator, -40 to 125 degC, 8-pin DFN (MC8), Tape and Reel; Manufacturer: Microchip; PartNumber: MCP1703AT-2802E/MC; DatasheetVersion: Rev. A; PackageVersion: C04-123C; PackageReference: DFN-MC8; PackageDescription: 8-Lead Plastic Dual Flat, 2 x 3 mm Body, 0.5 mm Pitch; Mounting Technology: Surface Mount; ComponentLink1Description: Manufacturer URL; ComponentLink1URL: http://www.microchip.com; ComponentLink2Description: Datasheet; ComponentLink2URL: http://ww1.microchip.com/downloads/en/DeviceDoc/25122A.pdf; ComponentLink3Description: Package Specification; ComponentLink3URL: http://www.microchip.com/stellent/groups/techpub_sg/documents/packagingspec/en012702.pdf; ComponentLink4Description: Product URL; ComponentLink4URL: http://www.microchip.com/MCP1703A
footprint MCHP-DFN-MC8_V (SON, 8-Leads, Body 3x2mm, Pitch 0.5mm, Thermal Pad 1.45x1.75mm)
part A pins: 1 VOUT (power) "Regulated Voltage Output", 4 GND (power) "Ground Terminal", 8 VIN (power) "Unregulated Supply Voltage", 9 EP (power) "Exposed Thermal Pad (EP); must be connected to VSS"
part B pins: 2 NC "No Connection", 3 NC "No Connection", 5 NC "No Connection", 6 NC "No Connection", 7 NC "No Connection"

## MCP1703AT-3002E/CB
designator U?
250 mA, 16V, Low Quiescent Current LDO Regulator, -40 to 125 degC, 3-pin SOT-23A (CB3), Tape and Reel; Manufacturer: Microchip; PartNumber: MCP1703AT-3002E/CB; DatasheetVersion: Rev. A; PackageVersion: C04-130B; PackageReference: SOT-23A-CB3; PackageDescription: 3-Lead Plastic Small Outline Transistor, 2.9 x 1.5 mm Body, 0.95 mm Pitch; Supplier 1: Digi-Key; Supplier Part Number 1: MCP1703AT-3002E/CB-ND; Supplier 2: Newark; Supplier Part Number 2: 83T7166; Supplier 3: Mouser; Supplier Part Number 3: 579-MCP1703AT3002ECB; Mounting Technology: Surface Mount; ComponentLink1Description: Manufacturer URL; ComponentLink1URL: http://www.microchip.com; ComponentLink2Description: Datasheet; ComponentLink2URL: http://ww1.microchip.com/downloads/en/DeviceDoc/25122A.pdf; ComponentLink3Description: Package Specification; ComponentLink3URL: http://www.microchip.com/stellent/groups/techpub_sg/documents/packagingspec/en012702.pdf; ComponentLink4Description: Product URL; ComponentLink4URL: http://www.microchip.com/MCP1703A
footprint MCHP-SOT-23A-CB3_N (SOT23, 3-Leads, Body 2.9x1.5mm, Pitch 0.95mm, IPC Medium Density)
footprint MCHP-SOT-23A-CB3_L (SOT23, 3-Leads, Body 2.9x1.5mm, Pitch 0.95mm, IPC High Density)
footprint MCHP-SOT-23A-CB3_M (SOT23, 3-Leads, Body 2.9x1.5mm, Pitch 0.95mm, IPC Low Density)
pins: 1 GND (power) "Ground Terminal", 2 VOUT (power) "Regulated Output Voltage", 3 VIN (power) "Unregulated Input Voltage"

## MCP1703AT-3002E/DB
designator U?
250 mA, 16V, Low Quiescent Current LDO Regulator, -40 to 125 degC, 3-pin SOT-223 (DB3), Tape and Reel; Manufacturer: Microchip; PartNumber: MCP1703AT-3002E/DB; DatasheetVersion: Rev. A; PackageVersion: C04-032B; PackageReference: SOT-223-DB3; PackageDescription: 3-Lead Plastic Small Outline Transistor, 6.5 x 3.5 mm Body, 2.3 mm Pitch; Supplier 1: Digi-Key; Supplier Part Number 1: MCP1703AT-3002E/DB-ND; Supplier 2: Newark; Supplier Part Number 2: 90T5929; Supplier 3: Mouser; Supplier Part Number 3: 579-MCP1703AT3002EDB; Mounting Technology: Surface Mount; ComponentLink1Description: Manufacturer URL; ComponentLink1URL: http://www.microchip.com; ComponentLink2Description: Datasheet; ComponentLink2URL: http://ww1.microchip.com/downloads/en/DeviceDoc/25122A.pdf; ComponentLink3Description: Package Specification; ComponentLink3URL: http://www.microchip.com/stellent/groups/techpub_sg/documents/packagingspec/en012702.pdf; ComponentLink4Description: Product URL; ComponentLink4URL: http://www.microchip.com/MCP1703A
footprint MCHP-SOT-223-DB3_N (SOT223, 3-Leads, Body 6.5x3.5mm, Pitch 2.3mm, IPC Medium Density)
footprint MCHP-SOT-223-DB3_L (SOT223, 3-Leads, Body 6.5x3.5mm, Pitch 2.3mm, IPC High Density)
footprint MCHP-SOT-223-DB3_M (SOT223, 3-Leads, Body 6.5x3.5mm, Pitch 2.3mm, IPC Low Density)
pins: 1 VIN (power) "Unregulated Supply Voltage", 2 GND (power) "Ground Terminal", 3 VOUT (power) "Regulated Voltage Output"

## MCP1703AT-3002E/MB
designator U?
250 mA, 16V, Low Quiescent Current LDO Regulator, -40 to 125 degC, 3-pin SOT-89 (MB3), Tape and Reel; Manufacturer: Microchip; PartNumber: MCP1703AT-3002E/MB; DatasheetVersion: Rev. A; PackageVersion: C04-029B; PackageReference: SOT-89-MB3; PackageDescription: 3-Lead Plastic Small Outline Transistor Header, 4.5 x 2.45 mm Body, 1.5 mm Pitch; Supplier 1: Digi-Key; Supplier Part Number 1: MCP1703AT-3002E/MB-ND; Supplier 2: Newark; Supplier Part Number 2: 83T7167; Supplier 3: Mouser; Supplier Part Number 3: 579-MCP1703AT3002EMB; Mounting Technology: Surface Mount; ComponentLink1Description: Manufacturer URL; ComponentLink1URL: http://www.microchip.com; ComponentLink2Description: Datasheet; ComponentLink2URL: http://ww1.microchip.com/downloads/en/DeviceDoc/25122A.pdf; ComponentLink3Description: Package Specification; ComponentLink3URL: http://www.microchip.com/stellent/groups/techpub_sg/documents/packagingspec/en012702.pdf; ComponentLink4Description: Product URL; ComponentLink4URL: http://www.microchip.com/MCP1703A
footprint MCHP-SOT-89-MB3_N (SOT89, 3-Leads, Body 4.5x2.45mm, Pitch 1.5mm, IPC Medium Density)
footprint MCHP-SOT-89-MB3_L (SOT89, 3-Leads, Body 4.5x2.45mm, Pitch 1.5mm, IPC High Density)
footprint MCHP-SOT-89-MB3_M (SOT89, 3-Leads, Body 4.5x2.45mm, Pitch 1.5mm, IPC Low Density)
pins: 1 GND (power) "Ground Terminal", 2 VIN (power) "Unregulated Supply Voltage", 3 VOUT (power) "Regulated Voltage Output"

## MCP1703AT-3002E/MC
designator U?
250 mA, 16V, Low Quiescent Current LDO Regulator, -40 to 125 degC, 8-pin DFN (MC8), Tape and Reel; Manufacturer: Microchip; PartNumber: MCP1703AT-3002E/MC; DatasheetVersion: Rev. A; PackageVersion: C04-123C; PackageReference: DFN-MC8; PackageDescription: 8-Lead Plastic Dual Flat, 2 x 3 mm Body, 0.5 mm Pitch; Supplier 1: Digi-Key; Supplier Part Number 1: MCP1703AT-3002E/MC-ND; Supplier 2: Newark; Supplier Part Number 2: 90T5930; Supplier 3: Mouser; Supplier Part Number 3: 579-MCP1703AT3002EMC; Mounting Technology: Surface Mount; ComponentLink1Description: Manufacturer URL; ComponentLink1URL: http://www.microchip.com; ComponentLink2Description: Datasheet; ComponentLink2URL: http://ww1.microchip.com/downloads/en/DeviceDoc/25122A.pdf; ComponentLink3Description: Package Specification; ComponentLink3URL: http://www.microchip.com/stellent/groups/techpub_sg/documents/packagingspec/en012702.pdf; ComponentLink4Description: Product URL; ComponentLink4URL: http://www.microchip.com/MCP1703A
footprint MCHP-DFN-MC8_V (SON, 8-Leads, Body 3x2mm, Pitch 0.5mm, Thermal Pad 1.45x1.75mm)
part A pins: 1 VOUT (power) "Regulated Voltage Output", 4 GND (power) "Ground Terminal", 8 VIN (power) "Unregulated Supply Voltage", 9 EP (power) "Exposed Thermal Pad (EP); must be connected to VSS"
part B pins: 2 NC "No Connection", 3 NC "No Connection", 5 NC "No Connection", 6 NC "No Connection", 7 NC "No Connection"

## MCP1703AT-3301E/DB
designator U?
250 mA, 16V, Low Quiescent Current LDO Regulator, -40 to 125 degC, 3-pin SOT-223 (DB3), Tape and Reel; Manufacturer: Microchip; PartNumber: MCP1703AT-3301E/DB; DatasheetVersion: Rev. A; PackageVersion: C04-032B; PackageReference: SOT-223-DB3; PackageDescription: 3-Lead Plastic Small Outline Transistor, 6.5 x 3.5 mm Body, 2.3 mm Pitch; Mounting Technology: Surface Mount; ComponentLink1Description: Manufacturer URL; ComponentLink1URL: http://www.microchip.com; ComponentLink2Description: Datasheet; ComponentLink2URL: http://ww1.microchip.com/downloads/en/DeviceDoc/25122A.pdf; ComponentLink3Description: Package Specification; ComponentLink3URL: http://www.microchip.com/stellent/groups/techpub_sg/documents/packagingspec/en012702.pdf; ComponentLink4Description: Product URL; ComponentLink4URL: http://www.microchip.com/MCP1703A
footprint MCHP-SOT-223-DB3_N (SOT223, 3-Leads, Body 6.5x3.5mm, Pitch 2.3mm, IPC Medium Density)
footprint MCHP-SOT-223-DB3_L (SOT223, 3-Leads, Body 6.5x3.5mm, Pitch 2.3mm, IPC High Density)
footprint MCHP-SOT-223-DB3_M (SOT223, 3-Leads, Body 6.5x3.5mm, Pitch 2.3mm, IPC Low Density)
pins: 1 VIN (power) "Unregulated Supply Voltage", 2 GND (power) "Ground Terminal", 3 VOUT (power) "Regulated Voltage Output"

## MCP1703AT-3302E/CB
designator U?
250 mA, 16V, Low Quiescent Current LDO Regulator, -40 to 125 degC, 3-pin SOT-23A (CB3), Tape and Reel; Manufacturer: Microchip; PartNumber: MCP1703AT-3302E/CB; DatasheetVersion: Rev. A; PackageVersion: C04-130B; PackageReference: SOT-23A-CB3; PackageDescription: 3-Lead Plastic Small Outline Transistor, 2.9 x 1.5 mm Body, 0.95 mm Pitch; Supplier 1: Digi-Key; Supplier Part Number 1: MCP1703AT-3302E/CBTR-ND; Supplier 2: Digi-Key; Supplier Part Number 2: MCP1703AT-3302E/CBCT-ND; Supplier 3: Digi-Key; Supplier Part Number 3: MCP1703AT-3302E/CBDKR-ND; Supplier 4: Farnell; Supplier Part Number 4: 2218573; Supplier 5: Newark; Supplier Part Number 5: 83T7168; Supplier 6: Newark; Supplier Part Number 6: 46W4756; Supplier 7: Mouser; Supplier Part Number 7: 579-MCP1703AT3302ECB; Mounting Technology: Surface Mount; ComponentLink1Description: Manufacturer URL; ComponentLink1URL: http://www.microchip.com; ComponentLink2Description: Datasheet; ComponentLink2URL: http://ww1.microchip.com/downloads/en/DeviceDoc/25122A.pdf; ComponentLink3Description: Package Specification; ComponentLink3URL: http://www.microchip.com/stellent/groups/techpub_sg/documents/packagingspec/en012702.pdf; ComponentLink4Description: Product URL; ComponentLink4URL: http://www.microchip.com/MCP1703A
footprint MCHP-SOT-23A-CB3_N (SOT23, 3-Leads, Body 2.9x1.5mm, Pitch 0.95mm, IPC Medium Density)
footprint MCHP-SOT-23A-CB3_L (SOT23, 3-Leads, Body 2.9x1.5mm, Pitch 0.95mm, IPC High Density)
footprint MCHP-SOT-23A-CB3_M (SOT23, 3-Leads, Body 2.9x1.5mm, Pitch 0.95mm, IPC Low Density)
pins: 1 GND (power) "Ground Terminal", 2 VOUT (power) "Regulated Output Voltage", 3 VIN (power) "Unregulated Input Voltage"

## MCP1703AT-3302E/DB
designator U?
250 mA, 16V, Low Quiescent Current LDO Regulator, -40 to 125 degC, 3-pin SOT-223 (DB3), Tape and Reel; Manufacturer: Microchip; PartNumber: MCP1703AT-3302E/DB; DatasheetVersion: Rev. A; PackageVersion: C04-032B; PackageReference: SOT-223-DB3; PackageDescription: 3-Lead Plastic Small Outline Transistor, 6.5 x 3.5 mm Body, 2.3 mm Pitch; Supplier 1: Digi-Key; Supplier Part Number 1: MCP1703AT-3302E/DB-ND; Supplier 2: Newark; Supplier Part Number 2: 90T5931; Supplier 3: Mouser; Supplier Part Number 3: 579-MCP1703AT3302EDB; Mounting Technology: Surface Mount; ComponentLink1Description: Manufacturer URL; ComponentLink1URL: http://www.microchip.com; ComponentLink2Description: Datasheet; ComponentLink2URL: http://ww1.microchip.com/downloads/en/DeviceDoc/25122A.pdf; ComponentLink3Description: Package Specification; ComponentLink3URL: http://www.microchip.com/stellent/groups/techpub_sg/documents/packagingspec/en012702.pdf; ComponentLink4Description: Product URL; ComponentLink4URL: http://www.microchip.com/MCP1703A
footprint MCHP-SOT-223-DB3_N (SOT223, 3-Leads, Body 6.5x3.5mm, Pitch 2.3mm, IPC Medium Density)
footprint MCHP-SOT-223-DB3_L (SOT223, 3-Leads, Body 6.5x3.5mm, Pitch 2.3mm, IPC High Density)
footprint MCHP-SOT-223-DB3_M (SOT223, 3-Leads, Body 6.5x3.5mm, Pitch 2.3mm, IPC Low Density)
pins: 1 VIN (power) "Unregulated Supply Voltage", 2 GND (power) "Ground Terminal", 3 VOUT (power) "Regulated Voltage Output"

## MCP1703AT-3302E/MB
designator U?
250 mA, 16V, Low Quiescent Current LDO Regulator, -40 to 125 degC, 3-pin SOT-89 (MB3), Tape and Reel; Manufacturer: Microchip; PartNumber: MCP1703AT-3302E/MB; DatasheetVersion: Rev. A; PackageVersion: C04-029B; PackageReference: SOT-89-MB3; PackageDescription: 3-Lead Plastic Small Outline Transistor Header, 4.5 x 2.45 mm Body, 1.5 mm Pitch; Supplier 1: Digi-Key; Supplier Part Number 1: MCP1703AT-3302E/MBTR-ND; Supplier 2: Digi-Key; Supplier Part Number 2: MCP1703AT-3302E/MBCT-ND; Supplier 3: Digi-Key; Supplier Part Number 3: MCP1703AT-3302E/MBDKR-ND; Supplier 4: Farnell; Supplier Part Number 4: 2218575; Supplier 5: Newark; Supplier Part Number 5: 83T7169; Supplier 6: Newark; Supplier Part Number 6: 46W4757; Supplier 7: Mouser; Supplier Part Number 7: 579-MCP1703AT3302EMB; Mounting Technology: Surface Mount; ComponentLink1Description: Manufacturer URL; ComponentLink1URL: http://www.microchip.com; ComponentLink2Description: Datasheet; ComponentLink2URL: http://ww1.microchip.com/downloads/en/DeviceDoc/25122A.pdf; ComponentLink3Description: Package Specification; ComponentLink3URL: http://www.microchip.com/stellent/groups/techpub_sg/documents/packagingspec/en012702.pdf; ComponentLink4Description: Product URL; ComponentLink4URL: http://www.microchip.com/MCP1703A
footprint MCHP-SOT-89-MB3_N (SOT89, 3-Leads, Body 4.5x2.45mm, Pitch 1.5mm, IPC Medium Density)
footprint MCHP-SOT-89-MB3_L (SOT89, 3-Leads, Body 4.5x2.45mm, Pitch 1.5mm, IPC High Density)
footprint MCHP-SOT-89-MB3_M (SOT89, 3-Leads, Body 4.5x2.45mm, Pitch 1.5mm, IPC Low Density)
pins: 1 GND (power) "Ground Terminal", 2 VIN (power) "Unregulated Supply Voltage", 3 VOUT (power) "Regulated Voltage Output"

## MCP1703AT-3302E/MC
designator U?
250 mA, 16V, Low Quiescent Current LDO Regulator, -40 to 125 degC, 8-pin DFN (MC8), Tape and Reel; Manufacturer: Microchip; PartNumber: MCP1703AT-3302E/MC; DatasheetVersion: Rev. A; PackageVersion: C04-123C; PackageReference: DFN-MC8; PackageDescription: 8-Lead Plastic Dual Flat, 2 x 3 mm Body, 0.5 mm Pitch; Supplier 1: Digi-Key; Supplier Part Number 1: MCP1703AT-3302E/MC-ND; Supplier 2: Newark; Supplier Part Number 2: 90T5932; Supplier 3: Mouser; Supplier Part Number 3: 579-MCP1703AT3302EMC; Mounting Technology: Surface Mount; ComponentLink1Description: Manufacturer URL; ComponentLink1URL: http://www.microchip.com; ComponentLink2Description: Datasheet; ComponentLink2URL: http://ww1.microchip.com/downloads/en/DeviceDoc/25122A.pdf; ComponentLink3Description: Package Specification; ComponentLink3URL: http://www.microchip.com/stellent/groups/techpub_sg/documents/packagingspec/en012702.pdf; ComponentLink4Description: Product URL; ComponentLink4URL: http://www.microchip.com/MCP1703A
footprint MCHP-DFN-MC8_V (SON, 8-Leads, Body 3x2mm, Pitch 0.5mm, Thermal Pad 1.45x1.75mm)
part A pins: 1 VOUT (power) "Regulated Voltage Output", 4 GND (power) "Ground Terminal", 8 VIN (power) "Unregulated Supply Voltage", 9 EP (power) "Exposed Thermal Pad (EP); must be connected to VSS"
part B pins: 2 NC "No Connection", 3 NC "No Connection", 5 NC "No Connection", 6 NC "No Connection", 7 NC "No Connection"